# EAGLE library part JAL-OV5645_CAMERA_MODULE (library m_opto)
OmniVision OV5645 5MP Camera Module with MIPI CSI Interface and Auto Focus Module Characteristics: Camera Module No. JAL-OV5645-Y660B Image Sensor OV5645 EFL 3.37 mm F.NO 2.8 Pixel 2468 x 1944 View Angle 70° Lens Type 1/4 inch Lens Dimensions 8.5 x 8.5 x 5.2 mm Module Size 19.57 x 8.5 mm Module Type Auto Focus Interface MIPI Mating Connector: BBR43-24KB533 Data based on Kai Lap Technologies drawing dated 2014-09-01. Added 2016-08-10.
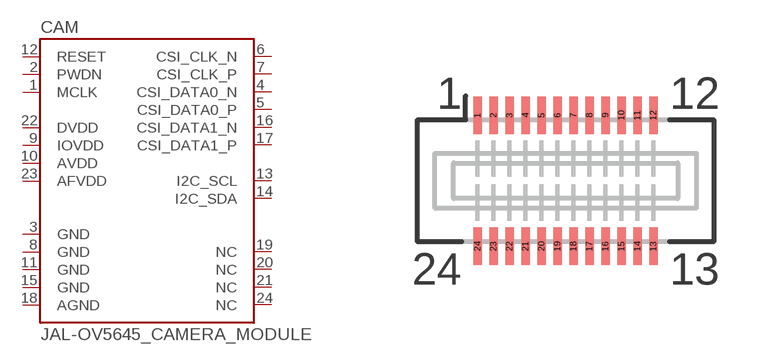
[diagram p4: symbol with the pads of ACON_BBR43-24; footprint ACON_BBR43-24]

Designator prefix CAM

## JAL-OV5645_CAMERA_MODULE (MANUF: OmniVision; PARTNUM: JAL-OV5645-Y660B)  [ACON_BBR43-24]
1  MCLK  pas
2  PWDN  pas
3  GND  pas
4  CSI_DATA0_N  pas
5  CSI_DATA0_P  pas
6  CSI_CLK_N  pas
7  CSI_CLK_P  pas
8  GND  pas
9  IOVDD  pas
10  AVDD  pas
11  GND  pas
12  RESET  pas
13  I2C_SCL  pas
14  I2C_SDA  pas
15  GND  pas
16  CSI_DATA1_N  pas
17  CSI_DATA1_P  pas
18  AGND  pas
19  NC  pas
20  NC  pas
21  NC  pas
22  DVDD  pas
23  AFVDD  pas
24  NC  pas

## Footprint ACON_BBR43-24 (pad centres in mm)
ACON BBR43 series board-to-board connector with 24 pins. Pin layout as specified in JAL-OV5645 camera module. Data from ACON drawing C-BBR43-04-01, 2010-04-15.
smd 0.23 x 0.92: 1 -2.2,1.64; 2 -1.8,1.64; 3 -1.4,1.64; 4 -1,1.64; 5 -0.6,1.64; 6 -0.2,1.64; 7 0.2,1.64; 8 0.6,1.64; 9 1,1.64; 10 1.4,1.64; 11 1.8,1.64; 12 2.2,1.64; 13 2.2,-1.64; 14 1.8,-1.64; 15 1.4,-1.64; 16 1,-1.64; 17 0.6,-1.64; 18 0.2,-1.64; 19 -0.2,-1.64; 20 -0.6,-1.64; 21 -1,-1.64; 22 -1.4,-1.64; 23 -1.8,-1.64; 24 -2.2,-1.64